# EAGLE library part 50208-016 (library con-aces-50208-series)
ACES CONNECTORS 50208 SERIES ACES Connecors 50208 <https://www.acesconn.com/tw/series/50208-xxxxx-xxx/1224>
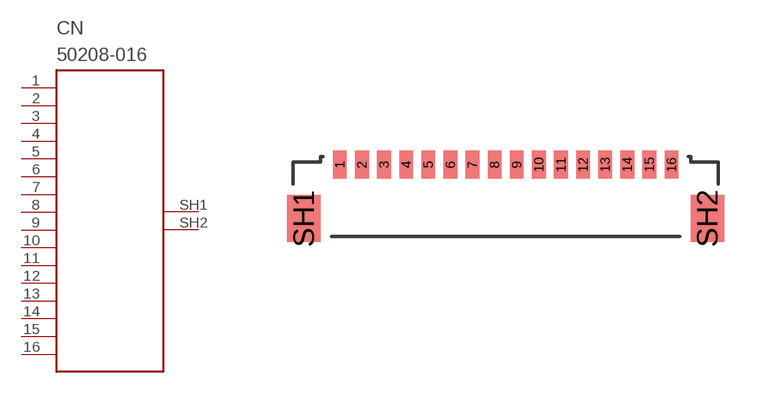
[diagram p12: symbol with the pads of 50208-016; footprint 50208-016]

Designator prefix CN

## 50208-016  [50208-016]
1  1
2  2
3  3
4  4
5  5
6  6
7  7
8  8
9  9
10  10
11  11
12  12
13  13
14  14
15  15
16  16
SH1  SH1
SH2  SH2

## Footprint 50208-016 (pad centres in mm)
smd 0.5 x 1: 1 -6,0; 2 -5.2,0; 3 -4.4,0; 4 -3.6,0; 5 -2.8,0; 6 -2,0; 7 -1.2,0; 8 -0.4,0; 9 0.4,0; 10 1.2,0; 11 2,0; 12 2.8,0; 13 3.6,0; 14 4.4,0; 15 5.2,0; 16 6,0
smd 1.2 x 1.7: SH1 -7.3,-1.95; SH2 7.3,-1.95